# Altium integrated library Transistor.IntLib: 3457 symbols (part 30 of 78)
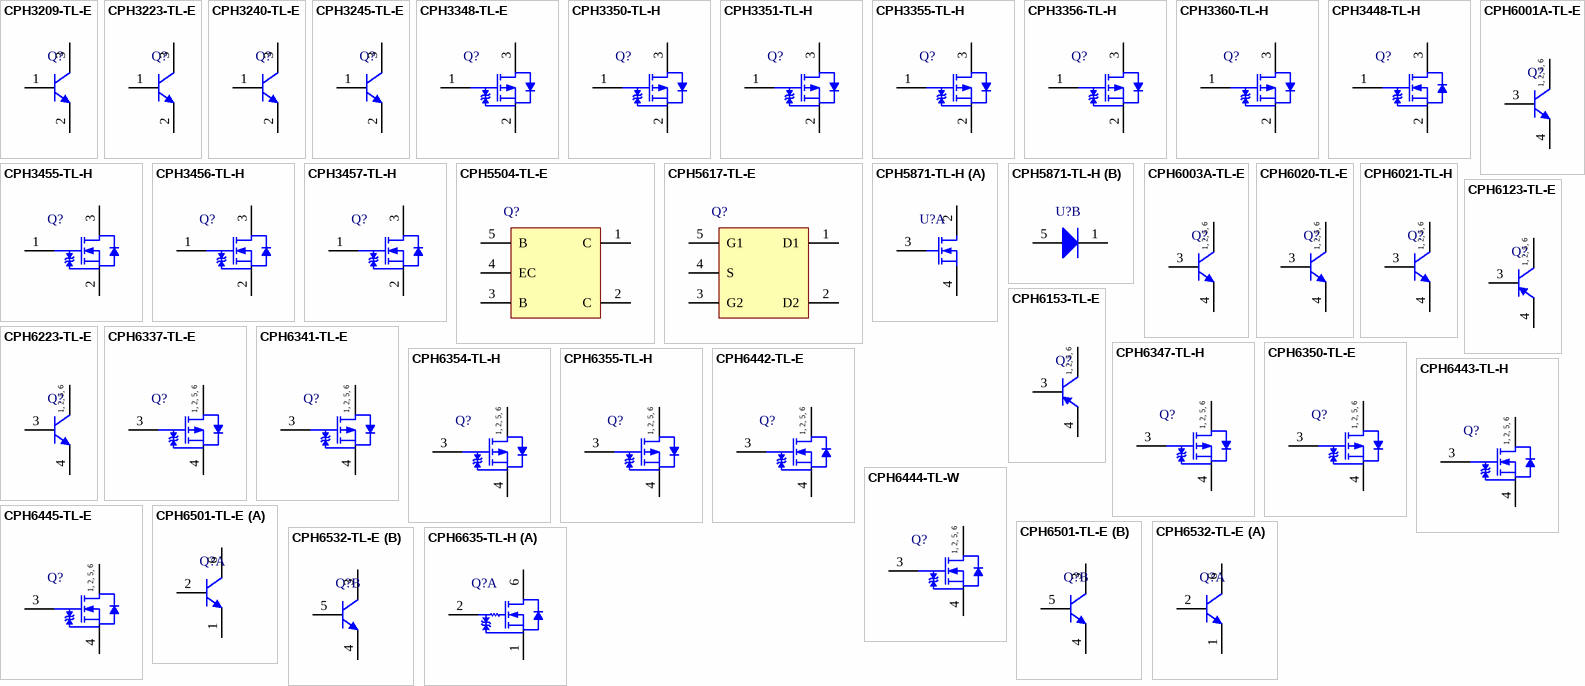
[diagram p123: symbols CPH3209-TL-E to CPH6635-TL-H]

## CPH6532-TL-E
designator Q?
Bipolar Transistor, 50 V, 1 A, Low VCE(sat), NPN Dual, 6-Pin CPH, Pb-Free, Tape and Reel; Manufacturer: On Semiconductor; PartNumber: CPH6532-TL-E; IC Continuous (A): 1; Polarity: Dual NPN; PackageReference: CPH-6; PackageDescription: 6-Pin Small Outline Transistor, Body 2.9 x 1.6 mm, Pitch 0.95 mm; Supplier 1: Digi-Key; Supplier Part Number 1: CPH6532-TL-E-ND; Supplier 2: Mouser; Supplier Part Number 2: 863-CPH6532-TL-E; Packing: Tape and Reel; RoHS: TRUE; Mounting Technology: Surface Mount; ComponentLink1Description: Manufacturer URL; ComponentLink1URL: http://www.onsemi.com/; ComponentLink2Description: Datasheet; ComponentLink2URL: http://www.onsemi.com/pub_link/Collateral/CPH6532-D.PDF; ComponentLink3Description: Package Specification; ComponentLink3URL: http://www.onsemi.com/pub_link/Collateral/CPH6001A-D.PDF
footprint ONSC-CPH-6_V (SOT23, 6-Leads, Body 2.9x1.6mm, Pitch 0.95mm)
part A pins: 1 E, 2 B, 6 C
part B pins: 3 C, 4 E, 5 B

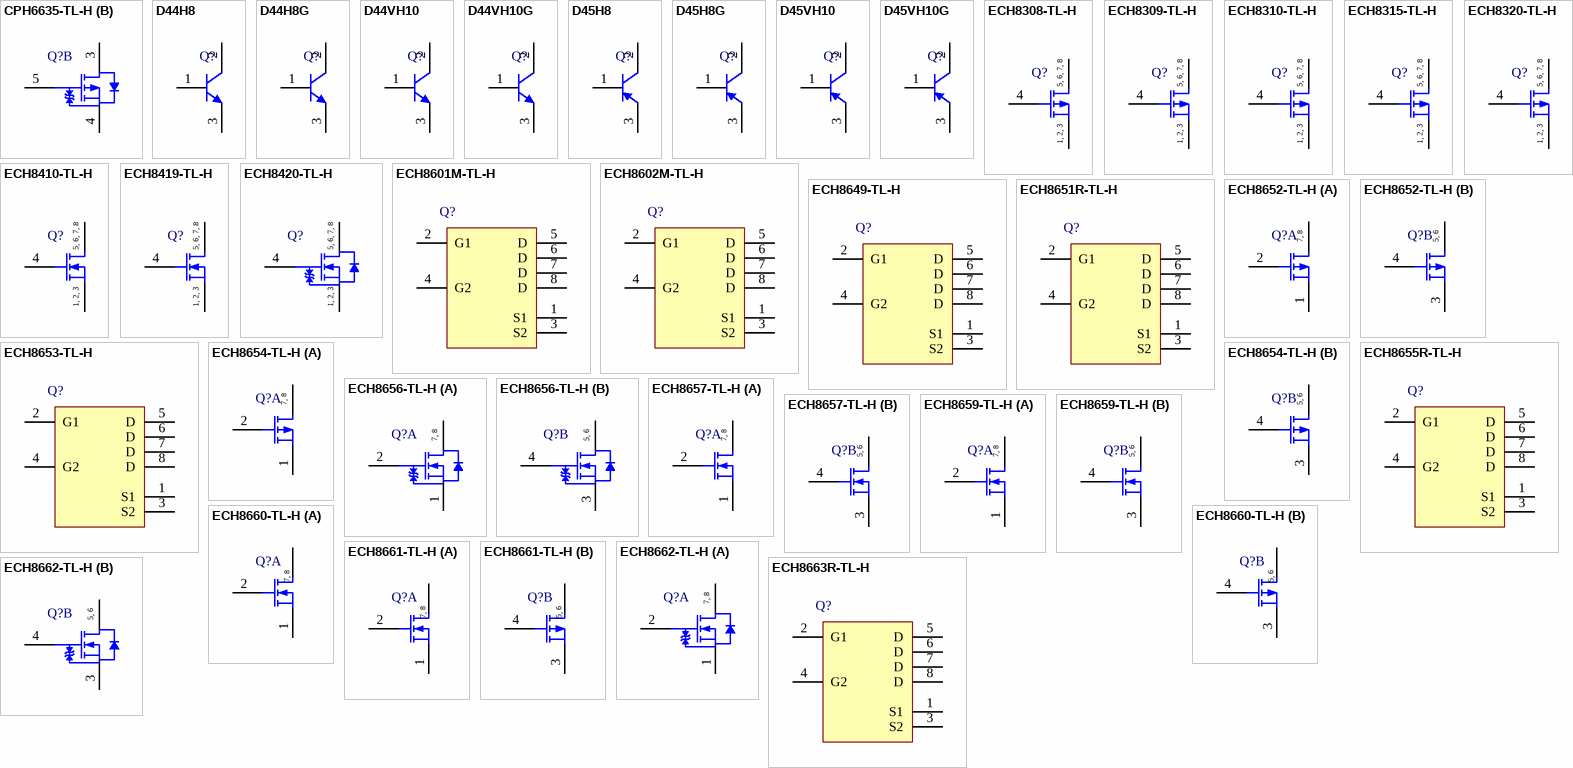
[diagram p34: symbols CPH6635-TL-H to ECH8663R-TL-H]

## CPH6635-TL-H
designator Q?
Power MOSFET, 30 V, 0.4 A, 3.7 Ohm, -20 V, -1.5 A, 280 mOhm, 6-Pin CPH, Pb-Free, Tape and Reel; Manufacturer: On Semiconductor; PartNumber: CPH6635-TL-H; Channel Polarity: Complementary; Configuration: Dual; PD Max (W): 0.8; VGS Max (V): 10; PackageReference: CPH-6; PackageDescription: 6-Pin Small Outline Transistor, Body 2.9 x 1.6 mm, Pitch 0.95 mm; Supplier 1: Newark; Supplier Part Number 1: 97W4972; Supplier 2: Mouser; Supplier Part Number 2: 863-CPH6635-TL-H; Package Type: CPH-6; Packing: Tape and Reel; RoHS: Pb-Free; Mounting Technology: Surface Mount; ComponentLink1Description: Manufacturer URL; ComponentLink1URL: http://www.onsemi.com/; ComponentLink2Description: Datasheet; ComponentLink2URL: http://www.onsemi.com/pub_link/Collateral/ENA2166-D.PDF; ComponentLink3Description: Package Specification; ComponentLink3URL: http://www.onsemi.com/pub_link/Collateral/CPH6001A-D.PDF
footprint ONSC-CPH-6_V (SOT23, 6-Leads, Body 2.9x1.6mm, Pitch 0.95mm)
part A pins: 1 S1, 2 G1, 6 D1
part B pins: 3 D2, 4 S2, 5 G2

## D44H8
designator Q?
Complementary Silicon Power Transistor, 3-Pin TO-220, Tube; Manufacturer: On Semiconductor; PartNumber: D44H8; IC Continuous (A): 10; Polarity: NPN; DatasheetVersion: Rev. 12; PackageVersion: Rev. AG, 09/2011; PackageReference: TO-220-3-221A-09; PackageDescription: 3-Pin Flange Mount, Vertical Straight Lead, Body 9.97 x 4.445 mm, Pitch 2.54 mm; Supplier 1: Digi-Key; Supplier Part Number 1: D44H8OS-ND; Packing: Tube; RoHS: FALSE; Mounting Technology: Through Hole; ComponentLink1Description: Manufacturer URL; ComponentLink1URL: http://www.onsemi.com/; ComponentLink2Description: Datasheet; ComponentLink2URL: http://www.onsemi.com/pub_link/Collateral/D44H-D.PDF; ComponentLink3Description: Package Specification; ComponentLink3URL: http://www.onsemi.com/pub_link/Collateral/221A-09.PDF
footprint ONSC-TO-220-3-221A-09 (FM, 3-Leads, Body 10.3x4.85mm, Pitch 2.54mm)
pins: 1 B, 2 C, 3 E

## D44H8G
designator Q?
Complementary Silicon Power Transistor, 3-Pin TO-220, Pb-Free, Tube; Manufacturer: On Semiconductor; PartNumber: D44H8G; IC Continuous (A): 10; Polarity: NPN; DatasheetVersion: Rev. 12; PackageVersion: Rev. AG, 09/2011; PackageReference: TO-220-3-221A-09; PackageDescription: 3-Pin Flange Mount, Vertical Straight Lead, Body 9.97 x 4.445 mm, Pitch 2.54 mm; Supplier 1: Digi-Key; Supplier Part Number 1: D44H8GOS-ND; Supplier 2: Farnell; Supplier Part Number 2: 9556206; Supplier 3: Newark; Supplier Part Number 3: 38K1067; Supplier 4: Newark; Supplier Part Number 4: 71J3833; Supplier 5: Mouser; Supplier Part Number 5: 863-D44H8G; Packing: Tube; RoHS: TRUE; Mounting Technology: Through Hole; ComponentLink1Description: Manufacturer URL; ComponentLink1URL: http://www.onsemi.com/; ComponentLink2Description: Datasheet; ComponentLink2URL: http://www.onsemi.com/pub_link/Collateral/D44H-D.PDF; ComponentLink3Description: Package Specification; ComponentLink3URL: http://www.onsemi.com/pub_link/Collateral/221A-09.PDF
footprint ONSC-TO-220-3-221A-09 (FM, 3-Leads, Body 10.3x4.85mm, Pitch 2.54mm)
pins: 1 B, 2 C, 3 E

## D44VH10
designator Q?
Complementary Silicon Power Transistor, 3-Pin TO-220, Tube; Manufacturer: On Semiconductor; PartNumber: D44VH10; IC Continuous (A): 15; Polarity: NPN; DatasheetVersion: Rev. 7; PackageVersion: Rev. AG, 09/2011; PackageReference: TO-220-3-221A-09; PackageDescription: 3-Pin Flange Mount, Vertical Straight Lead, Body 9.97 x 4.445 mm, Pitch 2.54 mm; Supplier 1: Digi-Key; Supplier Part Number 1: D44VH10OS-ND; Packing: Tube; RoHS: FALSE; Mounting Technology: Through Hole; ComponentLink1Description: Manufacturer URL; ComponentLink1URL: http://www.onsemi.com/; ComponentLink2Description: Datasheet; ComponentLink2URL: http://www.onsemi.com/pub_link/Collateral/D44VH-D.PDF; ComponentLink3Description: Package Specification; ComponentLink3URL: http://www.onsemi.com/pub_link/Collateral/221A-09.PDF
footprint ONSC-TO-220-3-221A-09 (FM, 3-Leads, Body 10.3x4.85mm, Pitch 2.54mm)
pins: 1 B, 2 C, 3 E

## D44VH10G
designator Q?
Complementary Silicon Power Transistor, 3-Pin TO-220, Pb-Free, Tube; Manufacturer: On Semiconductor; PartNumber: D44VH10G; IC Continuous (A): 15; Polarity: NPN; DatasheetVersion: Rev. 7; PackageVersion: Rev. AG, 09/2011; PackageReference: TO-220-3-221A-09; PackageDescription: 3-Pin Flange Mount, Vertical Straight Lead, Body 9.97 x 4.445 mm, Pitch 2.54 mm; Supplier 1: Digi-Key; Supplier Part Number 1: D44VH10GOS-ND; Supplier 2: Farnell; Supplier Part Number 2: 1459054; Supplier 3: Newark; Supplier Part Number 3: 26K3586; Supplier 4: Mouser; Supplier Part Number 4: 863-D44VH10G; Packing: Tube; RoHS: TRUE; Mounting Technology: Through Hole; ComponentLink1Description: Manufacturer URL; ComponentLink1URL: http://www.onsemi.com/; ComponentLink2Description: Datasheet; ComponentLink2URL: http://www.onsemi.com/pub_link/Collateral/D44VH-D.PDF; ComponentLink3Description: Package Specification; ComponentLink3URL: http://www.onsemi.com/pub_link/Collateral/221A-09.PDF
footprint ONSC-TO-220-3-221A-09 (FM, 3-Leads, Body 10.3x4.85mm, Pitch 2.54mm)
pins: 1 B, 2 C, 3 E

## D45H8
designator Q?
Complementary Silicon Power Transistor, 3-Pin TO-220, Tube; Manufacturer: On Semiconductor; PartNumber: D45H8; IC Continuous (A): 10; Polarity: PNP; DatasheetVersion: Rev. 12; PackageVersion: Rev. AG, 09/2011; PackageReference: TO-220-3-221A-09; PackageDescription: 3-Pin Flange Mount, Vertical Straight Lead, Body 9.97 x 4.445 mm, Pitch 2.54 mm; Supplier 1: Digi-Key; Supplier Part Number 1: D45H8OS-ND; Packing: Tube; RoHS: FALSE; Mounting Technology: Through Hole; ComponentLink1Description: Manufacturer URL; ComponentLink1URL: http://www.onsemi.com/; ComponentLink2Description: Datasheet; ComponentLink2URL: http://www.onsemi.com/pub_link/Collateral/D44H-D.PDF; ComponentLink3Description: Package Specification; ComponentLink3URL: http://www.onsemi.com/pub_link/Collateral/221A-09.PDF
footprint ONSC-TO-220-3-221A-09 (FM, 3-Leads, Body 10.3x4.85mm, Pitch 2.54mm)
pins: 1 B, 2 C, 3 E

## D45H8G
designator Q?
Complementary Silicon Power Transistor, 3-Pin TO-220, Pb-Free, Tube; Manufacturer: On Semiconductor; PartNumber: D45H8G; IC Continuous (A): 10; Polarity: PNP; DatasheetVersion: Rev. 12; PackageVersion: Rev. AG, 09/2011; PackageReference: TO-220-3-221A-09; PackageDescription: 3-Pin Flange Mount, Vertical Straight Lead, Body 9.97 x 4.445 mm, Pitch 2.54 mm; Supplier 1: Digi-Key; Supplier Part Number 1: D45H8GOS-ND; Supplier 2: Farnell; Supplier Part Number 2: 9556214; Supplier 3: Newark; Supplier Part Number 3: 45J0695; Supplier 4: Mouser; Supplier Part Number 4: 863-D45H8G; Packing: Tube; RoHS: TRUE; Mounting Technology: Through Hole; ComponentLink1Description: Manufacturer URL; ComponentLink1URL: http://www.onsemi.com/; ComponentLink2Description: Datasheet; ComponentLink2URL: http://www.onsemi.com/pub_link/Collateral/D44H-D.PDF; ComponentLink3Description: Package Specification; ComponentLink3URL: http://www.onsemi.com/pub_link/Collateral/221A-09.PDF
footprint ONSC-TO-220-3-221A-09 (FM, 3-Leads, Body 10.3x4.85mm, Pitch 2.54mm)
pins: 1 B, 2 C, 3 E

## D45VH10
designator Q?
Complementary Silicon Power Transistor, 3-Pin TO-220, Tube; Manufacturer: On Semiconductor; PartNumber: D45VH10; IC Continuous (A): 15; Polarity: PNP; DatasheetVersion: Rev. 7; PackageVersion: Rev. AG, 09/2011; PackageReference: TO-220-3-221A-09; PackageDescription: 3-Pin Flange Mount, Vertical Straight Lead, Body 9.97 x 4.445 mm, Pitch 2.54 mm; Supplier 1: Digi-Key; Supplier Part Number 1: D45VH10OS-ND; Packing: Tube; RoHS: FALSE; Mounting Technology: Through Hole; ComponentLink1Description: Manufacturer URL; ComponentLink1URL: http://www.onsemi.com/; ComponentLink2Description: Datasheet; ComponentLink2URL: http://www.onsemi.com/pub_link/Collateral/D44VH-D.PDF; ComponentLink3Description: Package Specification; ComponentLink3URL: http://www.onsemi.com/pub_link/Collateral/221A-09.PDF
footprint ONSC-TO-220-3-221A-09 (FM, 3-Leads, Body 10.3x4.85mm, Pitch 2.54mm)
pins: 1 B, 2 C, 3 E

## D45VH10G
designator Q?
Complementary Silicon Power Transistor, 3-Pin TO-220, Pb-Free, Tube; Manufacturer: On Semiconductor; PartNumber: D45VH10G; IC Continuous (A): 15; Polarity: PNP; DatasheetVersion: Rev. 7; PackageVersion: Rev. AG, 09/2011; PackageReference: TO-220-3-221A-09; PackageDescription: 3-Pin Flange Mount, Vertical Straight Lead, Body 9.97 x 4.445 mm, Pitch 2.54 mm; Supplier 1: Digi-Key; Supplier Part Number 1: D45VH10GOS-ND; Supplier 2: Farnell; Supplier Part Number 2: 1459055; Supplier 3: Newark; Supplier Part Number 3: 26K3588; Supplier 4: Mouser; Supplier Part Number 4: 863-D45VH10G; Packing: Tube; RoHS: TRUE; Mounting Technology: Through Hole; ComponentLink1Description: Manufacturer URL; ComponentLink1URL: http://www.onsemi.com/; ComponentLink2Description: Datasheet; ComponentLink2URL: http://www.onsemi.com/pub_link/Collateral/D44VH-D.PDF; ComponentLink3Description: Package Specification; ComponentLink3URL: http://www.onsemi.com/pub_link/Collateral/221A-09.PDF
footprint ONSC-TO-220-3-221A-09 (FM, 3-Leads, Body 10.3x4.85mm, Pitch 2.54mm)
pins: 1 B, 2 C, 3 E

## ECH8308-TL-H
designator Q?
P-Channel Power MOSFET, -12 V, -10 A, 12.5 mOhm, Single, 8-Pin ECH, Pb-Free, Tape and Reel; Manufacturer: On Semiconductor; PartNumber: ECH8308-TL-H; Channel Polarity: P Channel; Ciss Typ (pF): 2300; Coss Typ (pF): 720; Crss Typ (pF): 550; ID Max (A): 10; PD Max (W): 1.6; V(BR)DSS Min (V): 12; VGS(th) Max (V): 1.3; PackageReference: ECH-8; PackageDescription: 8-Pin SOT23, Body 2.9 x 2.3 mm, Pitch 0.65 mm; Supplier 1: Digi-Key; Supplier Part Number 1: ECH8308-TL-H-ND; Supplier 2: Newark; Supplier Part Number 2: 52T7754; Supplier 3: Mouser; Supplier Part Number 3: 863-ECH8308-TL-H; Configuration: Single; Package Type: SOT-28 FL / ECH-8; Packing: Tape and Reel; RoHS: Pb-Free; VGS Max (V): 10; Mounting Technology: Surface Mount; ComponentLink1Description: Manufacturer URL; ComponentLink1URL: http://www.onsemi.com/; ComponentLink2Description: Datasheet; ComponentLink2URL: http://www.onsemi.com/pub_link/Collateral/ECH8308-D.PDF; ComponentLink3Description: Package Specification; ComponentLink3URL: http://www.onsemi.com/pub_link/Collateral/ECH8308-D.PDF
footprint ONSC-ECH-8_V (SOT23, 8-Leads, Body 2.9x2.3mm, Pitch 0.65mm)
pins: 1 S, 2 S, 3 S, 4 G, 5 D, 6 D, 7 D, 8 D
text: 5, 6, 7, 8; 1, 2, 3

## ECH8309-TL-H
designator Q?
P-Channel Power MOSFET, -12 V, -9.5 A, 16 mOhm, Single, 8-Pin ECH, Pb-Free, Tape and Reel; Manufacturer: On Semiconductor; PartNumber: ECH8309-TL-H; Channel Polarity: P Channel; Ciss Typ (pF): 1780; Coss Typ (pF): 540; Crss Typ (pF): 390; ID Max (A): 9.5; PD Max (W): 1.5; V(BR)DSS Min (V): 12; VGS Max (V): 10; VGS(th) Max (V): 1.3; PackageReference: ECH-8; PackageDescription: 8-Pin SOT23, Body 2.9 x 2.3 mm, Pitch 0.65 mm; Supplier 1: Digi-Key; Supplier Part Number 1: ECH8309-TL-H-ND; Supplier 2: Mouser; Supplier Part Number 2: 863-ECH8309-TL-H; Configuration: Single; Package Type: SOT-28 FL / ECH-8; Packing: Tape and Reel; RoHS: Pb-Free; Mounting Technology: Surface Mount; ComponentLink1Description: Manufacturer URL; ComponentLink1URL: http://www.onsemi.com/; ComponentLink2Description: Datasheet; ComponentLink2URL: http://www.onsemi.com/pub_link/Collateral/ECH8309-D.PDF; ComponentLink3Description: Package Specification; ComponentLink3URL: http://www.onsemi.com/pub_link/Collateral/ECH8308-D.PDF
footprint ONSC-ECH-8_V (SOT23, 8-Leads, Body 2.9x2.3mm, Pitch 0.65mm)
pins: 1 S, 2 S, 3 S, 4 G, 5 D, 6 D, 7 D, 8 D
text: 5, 6, 7, 8; 1, 2, 3

## ECH8310-TL-H
designator Q?
P-Channel Power MOSFET, -30 V, -9 A, 17 mOhm, Single, 8-Pin ECH, Pb-Free, Tape and Reel; Manufacturer: On Semiconductor; PartNumber: ECH8310-TL-H; Channel Polarity: P Channel; Ciss Typ (pF): 1400; Coss Typ (pF): 350; Crss Typ (pF): 250; ID Max (A): 9; PD Max (W): 1.5; V(BR)DSS Min (V): 30; VGS Max (V): 20; VGS(th) Max (V): 2.6; PackageReference: ECH-8; PackageDescription: 8-Pin SOT23, Body 2.9 x 2.3 mm, Pitch 0.65 mm; Supplier 1: Digi-Key; Supplier Part Number 1: ECH8310-TL-H-ND; Supplier 2: Mouser; Supplier Part Number 2: 863-ECH8310-TL-H; Configuration: Single; Package Type: SOT-28 FL / ECH-8; Packing: Tape and Reel; RoHS: Pb-Free; Mounting Technology: Surface Mount; ComponentLink1Description: Manufacturer URL; ComponentLink1URL: http://www.onsemi.com/; ComponentLink2Description: Datasheet; ComponentLink2URL: http://www.onsemi.com/pub_link/Collateral/ECH8310-D.PDF; ComponentLink3Description: Package Specification; ComponentLink3URL: http://www.onsemi.com/pub_link/Collateral/ECH8308-D.PDF
footprint ONSC-ECH-8_V (SOT23, 8-Leads, Body 2.9x2.3mm, Pitch 0.65mm)
pins: 1 S, 2 S, 3 S, 4 G, 5 D, 6 D, 7 D, 8 D
text: 5, 6, 7, 8; 1, 2, 3

## ECH8315-TL-H
designator Q?
P-Channel Power MOSFET, -30 V, -7.5 A, 25 mOhm, Single, 8-Pin ECH, Pb-Free, Tape and Reel; Manufacturer: On Semiconductor; PartNumber: ECH8315-TL-H; Channel Polarity: P Channel; Ciss Typ (pF): 875; Coss Typ (pF): 200; Crss Typ (pF): 150; ID Max (A): 7.5; PD Max (W): 1.5; V(BR)DSS Min (V): 30; VGS Max (V): 20; VGS(th) Max (V): 2.6; PackageReference: ECH-8; PackageDescription: 8-Pin SOT23, Body 2.9 x 2.3 mm, Pitch 0.65 mm; Supplier 1: Digi-Key; Supplier Part Number 1: ECH8315-TL-H-ND; Supplier 2: Mouser; Supplier Part Number 2: 863-ECH8315-TL-H; Configuration: Single; Package Type: SOT-28 FL / ECH-8; Packing: Tape and Reel; RoHS: Pb-Free; Mounting Technology: Surface Mount; ComponentLink1Description: Manufacturer URL; ComponentLink1URL: http://www.onsemi.com/; ComponentLink2Description: Datasheet; ComponentLink2URL: http://www.onsemi.com/pub_link/Collateral/ENA1387-D.PDF; ComponentLink3Description: Package Specification; ComponentLink3URL: http://www.onsemi.com/pub_link/Collateral/ECH8308-D.PDF
footprint ONSC-ECH-8_V (SOT23, 8-Leads, Body 2.9x2.3mm, Pitch 0.65mm)
pins: 1 S, 2 S, 3 S, 4 G, 5 D, 6 D, 7 D, 8 D
text: 5, 6, 7, 8; 1, 2, 3

## ECH8320-TL-H
designator Q?
P-Channel Power MOSFET, -20 V, -9.5 A, 14.5 mOhm, Single, 8-Pin ECH, Pb-Free, Tape and Reel; Manufacturer: On Semiconductor; PartNumber: ECH8320-TL-H; Channel Polarity: P Channel; Ciss Typ (pF): 2300; Coss Typ (pF): 440; Crss Typ (pF): 340; ID Max (A): 9.5; PD Max (W): 1.6; V(BR)DSS Min (V): 20; VGS Max (V): 10; VGS(th) Max (V): 1.3; PackageReference: ECH-8; PackageDescription: 8-Pin SOT23, Body 2.9 x 2.3 mm, Pitch 0.65 mm; Supplier 1: Digi-Key; Supplier Part Number 1: ECH8320-TL-H-ND; Supplier 2: Mouser; Supplier Part Number 2: 863-ECH8320-TL-H; Configuration: Single; Package Type: SOT-28 FL / ECH-8; Packing: Tape and Reel; RoHS: Pb-Free; Mounting Technology: Surface Mount; ComponentLink1Description: Manufacturer URL; ComponentLink1URL: http://www.onsemi.com/; ComponentLink2Description: Datasheet; ComponentLink2URL: http://www.onsemi.com/pub_link/Collateral/ECH8320-D.PDF; ComponentLink3Description: Package Specification; ComponentLink3URL: http://www.onsemi.com/pub_link/Collateral/ECH8308-D.PDF
footprint ONSC-ECH-8_V (SOT23, 8-Leads, Body 2.9x2.3mm, Pitch 0.65mm)
pins: 1 S, 2 S, 3 S, 4 G, 5 D, 6 D, 7 D, 8 D
text: 5, 6, 7, 8; 1, 2, 3

## ECH8410-TL-H
designator Q?
N-Channel Power MOSFET, 30 V, 12 A, 10 mOhm, Single, 8-Pin ECH, Pb-Free, Tape and Reel; Manufacturer: On Semiconductor; PartNumber: ECH8410-TL-H; Channel Polarity: N Channel; Ciss Typ (pF): 1700; Coss Typ (pF): 300; Crss Typ (pF): 200; ID Max (A): 12; PD Max (W): 1.6; V(BR)DSS Min (V): 30; VGS Max (V): 20; VGS(th) Max (V): 2.6; PackageReference: ECH-8; PackageDescription: 8-Pin SOT23, Body 2.9 x 2.3 mm, Pitch 0.65 mm; Supplier 1: Digi-Key; Supplier Part Number 1: ECH8410-TL-H-ND; Supplier 2: Mouser; Supplier Part Number 2: 863-ECH8410-TL-H; Configuration: Single; Package Type: SOT-28 FL / ECH-8; Packing: Tape and Reel; RoHS: Pb-Free; Mounting Technology: Surface Mount; ComponentLink1Description: Manufacturer URL; ComponentLink1URL: http://www.onsemi.com/; ComponentLink2Description: Datasheet; ComponentLink2URL: http://www.onsemi.com/pub_link/Collateral/ECH8410-D.PDF; ComponentLink3Description: Package Specification; ComponentLink3URL: http://www.onsemi.com/pub_link/Collateral/ECH8308-D.PDF
footprint ONSC-ECH-8_V (SOT23, 8-Leads, Body 2.9x2.3mm, Pitch 0.65mm)
pins: 1 S, 2 S, 3 S, 4 G, 5 D, 6 D, 7 D, 8 D
text: 5, 6, 7, 8; 1, 2, 3

## ECH8419-TL-H
designator Q?
N-Channel Power MOSFET, 35 V, 9 A, 17 mOhm, Single, 8-Pin ECH, Pb-Free, Tape and Reel; Manufacturer: On Semiconductor; PartNumber: ECH8419-TL-H; Channel Polarity: N Channel; Ciss Typ (pF): 960; Coss Typ (pF): 130; Crss Typ (pF): 80; ID Max (A): 9; PD Max (W): 1.5; V(BR)DSS Min (V): 35; VGS Max (V): 20; VGS(th) Max (V): 2.6; PackageReference: ECH-8; PackageDescription: 8-Pin SOT23, Body 2.9 x 2.3 mm, Pitch 0.65 mm; Supplier 1: Digi-Key; Supplier Part Number 1: ECH8419-TL-H-ND; Supplier 2: Newark; Supplier Part Number 2: 65T1217; Supplier 3: Mouser; Supplier Part Number 3: 863-ECH8419-TL-H; Configuration: Single; Package Type: SOT-28 FL / ECH-8; Packing: Tape and Reel; RoHS: Pb-Free; Mounting Technology: Surface Mount; ComponentLink1Description: Manufacturer URL; ComponentLink1URL: http://www.onsemi.com/; ComponentLink2Description: Datasheet; ComponentLink2URL: http://www.onsemi.com/pub_link/Collateral/ENA1886-D.PDF; ComponentLink3Description: Package Specification; ComponentLink3URL: http://www.onsemi.com/pub_link/Collateral/ECH8308-D.PDF
footprint ONSC-ECH-8_V (SOT23, 8-Leads, Body 2.9x2.3mm, Pitch 0.65mm)
pins: 1 S, 2 S, 3 S, 4 G, 5 D, 6 D, 7 D, 8 D
text: 5, 6, 7, 8; 1, 2, 3

## ECH8420-TL-H
designator Q?
N-Channel Power MOSFET, 20 V, 14 A, 6.8 mOhm, Single, 8-Pin ECH, Pb-Free, Tape and Reel; Manufacturer: On Semiconductor; PartNumber: ECH8420-TL-H; Channel Polarity: N Channel; Ciss Typ (pF): 2430; Coss Typ (pF): 410; Crss Typ (pF): 330; ID Max (A): 14; PD Max (W): 1.6; V(BR)DSS Min (V): 20; VGS Max (V): 12; VGS(th) Max (V): 1.3; PackageReference: ECH-8; PackageDescription: 8-Pin SOT23, Body 2.9 x 2.3 mm, Pitch 0.65 mm; Supplier 1: Digi-Key; Supplier Part Number 1: ECH8420-TL-H-ND; Supplier 2: Newark; Supplier Part Number 2: 07W6844; Supplier 3: Mouser; Supplier Part Number 3: 863-ECH8420-TL-H; Configuration: Single; Package Type: SOT-28 FL / ECH-8; Packing: Tape and Reel; RoHS: Pb-Free; Mounting Technology: Surface Mount; ComponentLink1Description: Manufacturer URL; ComponentLink1URL: http://www.onsemi.com/; ComponentLink2Description: Datasheet; ComponentLink2URL: http://www.onsemi.com/pub_link/Collateral/ECH8420.PDF; ComponentLink3Description: Package Specification; ComponentLink3URL: http://www.onsemi.com/pub_link/Collateral/ECH8308-D.PDF
footprint ONSC-ECH-8_V (SOT23, 8-Leads, Body 2.9x2.3mm, Pitch 0.65mm)
pins: 1 S, 2 S, 3 S, 4 G, 5 D, 6 D, 7 D, 8 D
text: 5, 6, 7, 8; 1, 2, 3

## ECH8601M-TL-H
designator Q?
N-Channel Power MOSFET, 24 V, 8 A, 23 mOhm, Dual, 8-Pin ECH, Pb-Free, Tape and Reel; Manufacturer: On Semiconductor; PartNumber: ECH8601M-TL-H; Channel Polarity: N Channel; ID Max (A): 8; PD Max (W): 1.5; V(BR)DSS Min (V): 24; VGS Max (V): 12; VGS(th) Max (V): 1.3; PackageReference: ECH-8; PackageDescription: 8-Pin SOT23, Body 2.9 x 2.3 mm, Pitch 0.65 mm; Supplier 1: Digi-Key; Supplier Part Number 1: ECH8601M-TL-H-ND; Supplier 2: Mouser; Supplier Part Number 2: 863-ECH8601M-TL-H; Configuration: Dual; Package Type: SOT-28 FL / ECH-8; Packing: Tape and Reel; RoHS: Pb-Free; Mounting Technology: Surface Mount; ComponentLink1Description: Manufacturer URL; ComponentLink1URL: http://www.onsemi.com/; ComponentLink2Description: Datasheet; ComponentLink2URL: http://www.onsemi.com/pub_link/Collateral/ECH8601M-D.PDF; ComponentLink3Description: Package Specification; ComponentLink3URL: http://www.onsemi.com/pub_link/Collateral/ECH8308-D.PDF
footprint ONSC-ECH-8_V (SOT23, 8-Leads, Body 2.9x2.3mm, Pitch 0.65mm)
pins: 1 S1, 2 G1, 3 S2, 4 G2, 5 D, 6 D, 7 D, 8 D

## ECH8602M-TL-H
designator Q?
N-Channel Power MOSFET, 30 V, 6 A, 30 mOhm, Dual, 8-Pin ECH, Pb-Free, Tape and Reel; Manufacturer: On Semiconductor; PartNumber: ECH8602M-TL-H; Channel Polarity: N Channel; ID Max (A): 6; PD Max (W): 1.4; V(BR)DSS Min (V): 30; VGS Max (V): 12; VGS(th) Max (V): 1.3; PackageReference: ECH-8; PackageDescription: 8-Pin SOT23, Body 2.9 x 2.3 mm, Pitch 0.65 mm; Supplier 1: Digi-Key; Supplier Part Number 1: ECH8602M-TL-H-ND; Supplier 2: Mouser; Supplier Part Number 2: 863-ECH8602M-TL-H; Configuration: Dual; Package Type: SOT-28 FL / ECH-8; Packing: Tape and Reel; RoHS: Pb-Free; Mounting Technology: Surface Mount; ComponentLink1Description: Manufacturer URL; ComponentLink1URL: http://www.onsemi.com/; ComponentLink2Description: Datasheet; ComponentLink2URL: http://www.onsemi.com/pub_link/Collateral/ECH8602M-D.PDF; ComponentLink3Description: Package Specification; ComponentLink3URL: http://www.onsemi.com/pub_link/Collateral/ECH8308-D.PDF
footprint ONSC-ECH-8_V (SOT23, 8-Leads, Body 2.9x2.3mm, Pitch 0.65mm)
pins: 1 S1, 2 G1, 3 S2, 4 G2, 5 D, 6 D, 7 D, 8 D

## ECH8649-TL-H
designator Q?
N-Channel Power MOSFET, 20 V, 7.5 A, 17 mOhm, Dual, 8-Pin ECH, Pb-Free, Tape and Reel; Manufacturer: On Semiconductor; PartNumber: ECH8649-TL-H; Channel Polarity: N Channel; Ciss Typ (pF): 1060; Coss Typ (pF): 180; Crss Typ (pF): 135; ID Max (A): 7.5; PD Max (W): 1.4; V(BR)DSS Min (V): 20; VGS Max (V): 10; VGS(th) Max (V): 1.3; PackageReference: ECH-8; PackageDescription: 8-Pin SOT23, Body 2.9 x 2.3 mm, Pitch 0.65 mm; Supplier 1: Digi-Key; Supplier Part Number 1: ECH8649-TL-H-ND; Supplier 2: Mouser; Supplier Part Number 2: 863-ECH8649-TL-H; Configuration: Dual; Package Type: SOT-28 FL / ECH-8; Packing: Tape and Reel; RoHS: Pb-Free; Mounting Technology: Surface Mount; ComponentLink1Description: Manufacturer URL; ComponentLink1URL: http://www.onsemi.com/; ComponentLink2Description: Datasheet; ComponentLink2URL: http://www.onsemi.com/pub_link/Collateral/ECH8649-D.PDF; ComponentLink3Description: Package Specification; ComponentLink3URL: http://www.onsemi.com/pub_link/Collateral/ECH8308-D.PDF
footprint ONSC-ECH-8_V (SOT23, 8-Leads, Body 2.9x2.3mm, Pitch 0.65mm)
pins: 1 S1, 2 G1, 3 S2, 4 G2, 5 D, 6 D, 7 D, 8 D

## ECH8651R-TL-H
designator Q?
N-Channel Power MOSFET, 24 V, 10 A, 14 mOhm, Dual, 8-Pin ECH, Pb-Free, Tape and Reel; Manufacturer: On Semiconductor; PartNumber: ECH8651R-TL-H; Channel Polarity: N Channel; ID Max (A): 10; PD Max (W): 1.4; V(BR)DSS Min (V): 24; VGS Max (V): 12; VGS(th) Max (V): 1.3; PackageReference: ECH-8; PackageDescription: 8-Pin SOT23, Body 2.9 x 2.3 mm, Pitch 0.65 mm; Supplier 1: Digi-Key; Supplier Part Number 1: 869-1158-2-ND; Supplier 2: Digi-Key; Supplier Part Number 2: 869-1158-1-ND; Supplier 3: Digi-Key; Supplier Part Number 3: 869-1158-6-ND; Supplier 4: Mouser; Supplier Part Number 4: 863-ECH8651R-TL-H; Configuration: Dual; Package Type: SOT-28 FL / ECH-8; Packing: Tape and Reel; RoHS: Pb-Free; Mounting Technology: Surface Mount; ComponentLink1Description: Manufacturer URL; ComponentLink1URL: http://www.onsemi.com/; ComponentLink2Description: Datasheet; ComponentLink2URL: http://www.onsemi.com/pub_link/Collateral/ECH8651R-D.PDF; ComponentLink3Description: Package Specification; ComponentLink3URL: http://www.onsemi.com/pub_link/Collateral/ECH8308-D.PDF
footprint ONSC-ECH-8_V (SOT23, 8-Leads, Body 2.9x2.3mm, Pitch 0.65mm)
pins: 1 S1, 2 G1, 3 S2, 4 G2, 5 D, 6 D, 7 D, 8 D

## ECH8652-TL-H
designator Q?
P-Channel Power MOSFET, -12 V, -6 A, 28 mOhm, Dual, 8-Pin ECH, Pb-Free, Tape and Reel; Manufacturer: On Semiconductor; PartNumber: ECH8652-TL-H; Channel Polarity: P Channel; Ciss Typ (pF): 1000; Coss Typ (pF): 320; Crss Typ (pF): 250; ID Max (A): 6; PD Max (W): 1.3; V(BR)DSS Min (V): 12; VGS Max (V): 10; VGS(th) Max (V): 1.4; PackageReference: ECH-8; PackageDescription: 8-Pin SOT23, Body 2.9 x 2.3 mm, Pitch 0.65 mm; Supplier 1: Digi-Key; Supplier Part Number 1: ECH8652-TL-H-ND; Supplier 2: Mouser; Supplier Part Number 2: 863-ECH8652-TL-H; Configuration: Dual; Package Type: SOT-28 FL / ECH-8; Packing: Tape and Reel; RoHS: Pb-Free; Mounting Technology: Surface Mount; ComponentLink1Description: Manufacturer URL; ComponentLink1URL: http://www.onsemi.com/; ComponentLink2Description: Datasheet; ComponentLink2URL: http://www.onsemi.com/pub_link/Collateral/ECH8652-D.PDF; ComponentLink3Description: Package Specification; ComponentLink3URL: http://www.onsemi.com/pub_link/Collateral/ECH8308-D.PDF
footprint ONSC-ECH-8_V (SOT23, 8-Leads, Body 2.9x2.3mm, Pitch 0.65mm)
part A pins: 1 S1, 2 G1, 7 D1, 8 D1
part B pins: 3 S2, 4 G2, 5 D2, 6 D2
part A text: 7, 8
part B text: 5, 6

## ECH8653-TL-H
designator Q?
N-Channel Power MOSFET, 20 V, 7.5 A, 20 mOhm, Dual, 8-Pin ECH, Pb-Free, Tape and Reel; Manufacturer: On Semiconductor; PartNumber: ECH8653-TL-H; Channel Polarity: N Channel; Ciss Typ (pF): 1280; Coss Typ (pF): 170; Crss Typ (pF): 105; ID Max (A): 7.5; PD Max (W): 1.4; V(BR)DSS Min (V): 20; VGS Max (V): 10; VGS(th) Max (V): 2.4; PackageReference: ECH-8; PackageDescription: 8-Pin SOT23, Body 2.9 x 2.3 mm, Pitch 0.65 mm; Supplier 1: Digi-Key; Supplier Part Number 1: ECH8653-TL-H-ND; Supplier 2: Mouser; Supplier Part Number 2: 863-ECH8653-TL-H; Configuration: Dual; Package Type: SOT-28 FL / ECH-8; Packing: Tape and Reel; RoHS: Pb-Free; Mounting Technology: Surface Mount; ComponentLink1Description: Manufacturer URL; ComponentLink1URL: http://www.onsemi.com/; ComponentLink2Description: Datasheet; ComponentLink2URL: http://www.onsemi.com/pub_link/Collateral/ECH8653-D.PDF; ComponentLink3Description: Package Specification; ComponentLink3URL: http://www.onsemi.com/pub_link/Collateral/ECH8308-D.PDF
footprint ONSC-ECH-8_V (SOT23, 8-Leads, Body 2.9x2.3mm, Pitch 0.65mm)
pins: 1 S1, 2 G1, 3 S2, 4 G2, 5 D, 6 D, 7 D, 8 D

## ECH8654-TL-H
designator Q?
P-Channel Power MOSFET, -20 V, -5 A, 38 mOhm, Dual, 8-Pin ECH, Pb-Free, Tape and Reel; Manufacturer: On Semiconductor; PartNumber: ECH8654-TL-H; Channel Polarity: P Channel; Ciss Typ (pF): 960; Coss Typ (pF): 180; Crss Typ (pF): 140; ID Max (A): 5; PD Max (W): 1.3; V(BR)DSS Min (V): 20; VGS Max (V): 10; PackageReference: ECH-8; PackageDescription: 8-Pin SOT23, Body 2.9 x 2.3 mm, Pitch 0.65 mm; Supplier 1: Digi-Key; Supplier Part Number 1: 869-1159-2-ND; Supplier 2: Digi-Key; Supplier Part Number 2: 869-1159-1-ND; Supplier 3: Digi-Key; Supplier Part Number 3: 869-1159-6-ND; Supplier 4: Mouser; Supplier Part Number 4: 863-ECH8654-TL-H; Configuration: Dual; Package Type: SOT-28 FL / ECH-8; Packing: Tape and Reel; RoHS: Pb-Free; VGS(th) Max (V): 1.3; Mounting Technology: Surface Mount; ComponentLink1Description: Manufacturer URL; ComponentLink1URL: http://www.onsemi.com/; ComponentLink2Description: Datasheet; ComponentLink2URL: http://www.onsemi.com/pub_link/Collateral/ENA0981-D.PDF; ComponentLink3Description: Package Specification; ComponentLink3URL: http://www.onsemi.com/pub_link/Collateral/ECH8308-D.PDF
footprint ONSC-ECH-8_V (SOT23, 8-Leads, Body 2.9x2.3mm, Pitch 0.65mm)
part A pins: 1 S1, 2 G1, 7 D1, 8 D1
part B pins: 3 S2, 4 G2, 5 D2, 6 D2
part A text: 7, 8
part B text: 5, 6

## ECH8655R-TL-H
designator Q?
N-Channel Power MOSFET, 24 V, 9 A, 17 mOhm, Dual, 8-Pin ECH, Pb-Free, Tape and Reel; Manufacturer: On Semiconductor; PartNumber: ECH8655R-TL-H; Channel Polarity: N Channel; ID Max (A): 9; PD Max (W): 1.4; V(BR)DSS Min (V): 24; VGS Max (V): 12; VGS(th) Max (V): 1.3; PackageReference: ECH-8; PackageDescription: 8-Pin SOT23, Body 2.9 x 2.3 mm, Pitch 0.65 mm; Supplier 1: Digi-Key; Supplier Part Number 1: 869-1160-2-ND; Supplier 2: Digi-Key; Supplier Part Number 2: 869-1160-1-ND; Supplier 3: Digi-Key; Supplier Part Number 3: 869-1160-6-ND; Supplier 4: Mouser; Supplier Part Number 4: 863-ECH8655R-TL-H; Configuration: Dual; Package Type: SOT-28 FL / ECH-8; Packing: Tape and Reel; RoHS: Pb-Free; Mounting Technology: Surface Mount; ComponentLink1Description: Manufacturer URL; ComponentLink1URL: http://www.onsemi.com/; ComponentLink2Description: Datasheet; ComponentLink2URL: http://www.onsemi.com/pub_link/Collateral/ECH8655R-D.PDF; ComponentLink3Description: Package Specification; ComponentLink3URL: http://www.onsemi.com/pub_link/Collateral/ECH8308-D.PDF
footprint ONSC-ECH-8_V (SOT23, 8-Leads, Body 2.9x2.3mm, Pitch 0.65mm)
pins: 1 S1, 2 G1, 3 S2, 4 G2, 5 D, 6 D, 7 D, 8 D

## ECH8656-TL-H
designator Q?
N-Channel Power MOSFET, 20 V, 7.5 A, 17 mOhm, Dual, 8-Pin ECH, Pb-Free, Tape and Reel; Manufacturer: On Semiconductor; PartNumber: ECH8656-TL-H; Channel Polarity: N Channel; Ciss Typ (pF): 1060; Coss Typ (pF): 180; Crss Typ (pF): 135; ID Max (A): 7.5; PD Max (W): 1.3; V(BR)DSS Min (V): 20; VGS Max (V): 10; PackageReference: ECH-8; PackageDescription: 8-Pin SOT23, Body 2.9 x 2.3 mm, Pitch 0.65 mm; Supplier 1: Digi-Key; Supplier Part Number 1: ECH8656-TL-H-ND; Supplier 2: Mouser; Supplier Part Number 2: 863-ECH8656-TL-H; Configuration: Dual; Package Type: SOT-28 FL / ECH-8; Packing: Tape and Reel; RoHS: Pb-Free; VGS(th) Max (V): 1.3; Mounting Technology: Surface Mount; ComponentLink1Description: Manufacturer URL; ComponentLink1URL: http://www.onsemi.com/; ComponentLink2Description: Datasheet; ComponentLink2URL: http://www.onsemi.com/pub_link/Collateral/EN9010.PDF; ComponentLink3Description: Package Specification; ComponentLink3URL: http://www.onsemi.com/pub_link/Collateral/ECH8308-D.PDF
footprint ONSC-ECH-8_V (SOT23, 8-Leads, Body 2.9x2.3mm, Pitch 0.65mm)
part A pins: 1 S1, 2 G1, 7 D1, 8 D1
part B pins: 3 S2, 4 G2, 5 D2, 6 D2
part A text: 7, 8
part B text: 5, 6

## ECH8657-TL-H
designator Q?
N-Channel Power MOSFET, 35 V, 4.5 A, 59 mOhm, Dual, 8-Pin ECH, Pb-Free, Tape and Reel; Manufacturer: On Semiconductor; PartNumber: ECH8657-TL-H; Channel Polarity: N Channel; Ciss Typ (pF): 230; Coss Typ (pF): 37; Crss Typ (pF): 25; ID Max (A): 4.5; PD Max (W): 1.3; V(BR)DSS Min (V): 35; VGS Max (V): 20; VGS(th) Max (V): 2.6; PackageReference: ECH-8; PackageDescription: 8-Pin SOT23, Body 2.9 x 2.3 mm, Pitch 0.65 mm; Supplier 1: Digi-Key; Supplier Part Number 1: ECH8657-TL-H-ND; Supplier 2: Mouser; Supplier Part Number 2: 863-ECH8657-TL-H; Configuration: Dual; Package Type: SOT-28 FL / ECH-8; Packing: Tape and Reel; RoHS: Pb-Free; Mounting Technology: Surface Mount; ComponentLink1Description: Manufacturer URL; ComponentLink1URL: http://www.onsemi.com/; ComponentLink2Description: Datasheet; ComponentLink2URL: http://www.onsemi.com/pub_link/Collateral/ECH8657-D.PDF; ComponentLink3Description: Package Specification; ComponentLink3URL: http://www.onsemi.com/pub_link/Collateral/ECH8308-D.PDF
footprint ONSC-ECH-8_V (SOT23, 8-Leads, Body 2.9x2.3mm, Pitch 0.65mm)
part A pins: 1 S1, 2 G1, 7 D1, 8 D1
part B pins: 3 S2, 4 G2, 5 D2, 6 D2
part A text: 7, 8
part B text: 5, 6

## ECH8659-TL-H
designator Q?
N-Channel Power MOSFET, 30 V, 7 A, 24 mOhm, Dual, 8-Pin ECH, Pb-Free, Tape and Reel; Manufacturer: On Semiconductor; PartNumber: ECH8659-TL-H; Channel Polarity: N Channel; Ciss Typ (pF): 710; Coss Typ (pF): 120; Crss Typ (pF): 72; ID Max (A): 7; PD Max (W): 1.3; V(BR)DSS Min (V): 30; VGS Max (V): 20; VGS(th) Max (V): 2.6; PackageReference: ECH-8; PackageDescription: 8-Pin SOT23, Body 2.9 x 2.3 mm, Pitch 0.65 mm; Supplier 1: Digi-Key; Supplier Part Number 1: ECH8659-TL-H-ND; Supplier 2: Mouser; Supplier Part Number 2: 863-ECH8659-TL-H; Configuration: Dual; Package Type: SOT-28 FL / ECH-8; Packing: Tape and Reel; RoHS: Pb-Free; Mounting Technology: Surface Mount; ComponentLink1Description: Manufacturer URL; ComponentLink1URL: http://www.onsemi.com/; ComponentLink2Description: Datasheet; ComponentLink2URL: http://www.onsemi.com/pub_link/Collateral/ECH8659-D.PDF; ComponentLink3Description: Package Specification; ComponentLink3URL: http://www.onsemi.com/pub_link/Collateral/ECH8308-D.PDF
footprint ONSC-ECH-8_V (SOT23, 8-Leads, Body 2.9x2.3mm, Pitch 0.65mm)
part A pins: 1 S1, 2 G1, 7 D1, 8 D1
part B pins: 3 S2, 4 G2, 5 D2, 6 D2
part A text: 7, 8
part B text: 5, 6

## ECH8660-TL-H
designator Q?
Power MOSFET, 30 V, 4.5 A, 59 mOhm, -30 V, -4.5 A, 59 mOhm, Complementary Dual, 8-Pin ECH, Pb-Free, Tape and Reel; Manufacturer: On Semiconductor; PartNumber: ECH8660-TL-H; ID Max (A): 4.5; PD Max (W): 1.3; V(BR)DSS Min (V): 30; VGS Max (V): 20; PackageReference: ECH-8; PackageDescription: 8-Pin SOT23, Body 2.9 x 2.3 mm, Pitch 0.65 mm; Supplier 1: Digi-Key; Supplier Part Number 1: ECH8660-TL-H-ND; Supplier 2: Newark; Supplier Part Number 2: 52T7770; Supplier 3: Mouser; Supplier Part Number 3: 863-ECH8660-TL-H; Channel Polarity: Complementary; Configuration: Dual; Package Type: SOT-28 FL / ECH-8; Packing: Tape and Reel; RoHS: Pb-Free; Mounting Technology: Surface Mount; ComponentLink1Description: Manufacturer URL; ComponentLink1URL: http://www.onsemi.com/; ComponentLink2Description: Datasheet; ComponentLink2URL: http://www.onsemi.com/pub_link/Collateral/ECH8660-D.PDF; ComponentLink3Description: Package Specification; ComponentLink3URL: http://www.onsemi.com/pub_link/Collateral/ECH8308-D.PDF
footprint ONSC-ECH-8_V (SOT23, 8-Leads, Body 2.9x2.3mm, Pitch 0.65mm)
part A pins: 1 S1, 2 G1, 7 D1, 8 D1
part B pins: 3 S2, 4 G2, 5 D2, 6 D2
part A text: 7, 8
part B text: 5, 6

## ECH8661-TL-H
designator Q?
Power MOSFET, 30 V, 7 A, 24 mOhm, -30 V, -5.5 A, 39 mOhm, Complementary Dual, 8-Pin ECH, Pb-Free, Tape and Reel; Manufacturer: On Semiconductor; PartNumber: ECH8661-TL-H; PD Max (W): 1.3; V(BR)DSS Min (V): 30; VGS Max (V): 20; VGS(th) Max (V): 2.6; PackageReference: ECH-8; PackageDescription: 8-Pin SOT23, Body 2.9 x 2.3 mm, Pitch 0.65 mm; Supplier 1: Digi-Key; Supplier Part Number 1: ECH8661-TL-H-ND; Supplier 2: Mouser; Supplier Part Number 2: 863-ECH8661-TL-H; Channel Polarity: Complementary; Configuration: Dual; Package Type: SOT-28 FL / ECH-8; Packing: Tape and Reel; RoHS: Pb-Free; Mounting Technology: Surface Mount; ComponentLink1Description: Manufacturer URL; ComponentLink1URL: http://www.onsemi.com/; ComponentLink2Description: Datasheet; ComponentLink2URL: http://www.onsemi.com/pub_link/Collateral/ECH8661-D.PDF; ComponentLink3Description: Package Specification; ComponentLink3URL: http://www.onsemi.com/pub_link/Collateral/ECH8308-D.PDF
footprint ONSC-ECH-8_V (SOT23, 8-Leads, Body 2.9x2.3mm, Pitch 0.65mm)
part A pins: 1 S1, 2 G1, 7 D1, 8 D1
part B pins: 3 S2, 4 G2, 5 D2, 6 D2
part A text: 7, 8
part B text: 5, 6

## ECH8662-TL-H
designator Q?
N-Channel Power MOSFET, 40 V, 6.5 A, 30 mOhm, Dual, 8-Pin ECH, Pb-Free, Tape and Reel; Manufacturer: On Semiconductor; PartNumber: ECH8662-TL-H; Channel Polarity: N Channel; Ciss Typ (pF): 1130; Coss Typ (pF): 77; Crss Typ (pF): 60; ID Max (A): 6.5; PD Max (W): 1.3; V(BR)DSS Min (V): 40; VGS Max (V): 10; PackageReference: ECH-8; PackageDescription: 8-Pin SOT23, Body 2.9 x 2.3 mm, Pitch 0.65 mm; Supplier 1: Digi-Key; Supplier Part Number 1: ECH8662-TL-H-ND; Supplier 2: Mouser; Supplier Part Number 2: 863-ECH8662-TL-H; Configuration: Dual; Package Type: SOT-28 FL / ECH-8; Packing: Tape and Reel; RoHS: Pb-Free; VGS(th) Max (V): 1.3; Mounting Technology: Surface Mount; ComponentLink1Description: Manufacturer URL; ComponentLink1URL: http://www.onsemi.com/; ComponentLink2Description: Datasheet; ComponentLink2URL: http://www.onsemi.com/pub_link/Collateral/ECH8662-D.PDF; ComponentLink3Description: Package Specification; ComponentLink3URL: http://www.onsemi.com/pub_link/Collateral/ECH8308-D.PDF
footprint ONSC-ECH-8_V (SOT23, 8-Leads, Body 2.9x2.3mm, Pitch 0.65mm)
part A pins: 1 S1, 2 G1, 7 D1, 8 D1
part B pins: 3 S2, 4 G2, 5 D2, 6 D2
part A text: 7, 8
part B text: 5, 6

## ECH8663R-TL-H
designator Q?
N-Channel Power MOSFET, 30 V, 8 A, 20.5 mOhm, Dual, 8-Pin ECH, Pb-Free, Tape and Reel; Manufacturer: On Semiconductor; PartNumber: ECH8663R-TL-H; Channel Polarity: N Channel; ID Max (A): 8; PD Max (W): 1.4; V(BR)DSS Min (V): 30; VGS Max (V): 12; VGS(th) Max (V): 1.3; PackageReference: ECH-8; PackageDescription: 8-Pin SOT23, Body 2.9 x 2.3 mm, Pitch 0.65 mm; Supplier 1: Digi-Key; Supplier Part Number 1: ECH8663R-TL-H-ND; Supplier 2: Mouser; Supplier Part Number 2: 863-ECH8663R-TL-H; Configuration: Dual; Package Type: SOT-28 FL / ECH-8; Packing: Tape and Reel; RoHS: Pb-Free; Mounting Technology: Surface Mount; ComponentLink1Description: Manufacturer URL; ComponentLink1URL: http://www.onsemi.com/; ComponentLink2Description: Datasheet; ComponentLink2URL: http://www.onsemi.com/pub_link/Collateral/ENA1184-D.PDF; ComponentLink3Description: Package Specification; ComponentLink3URL: http://www.onsemi.com/pub_link/Collateral/ECH8308-D.PDF
footprint ONSC-ECH-8_V (SOT23, 8-Leads, Body 2.9x2.3mm, Pitch 0.65mm)
pins: 1 S1, 2 G1, 3 S2, 4 G2, 5 D, 6 D, 7 D, 8 D

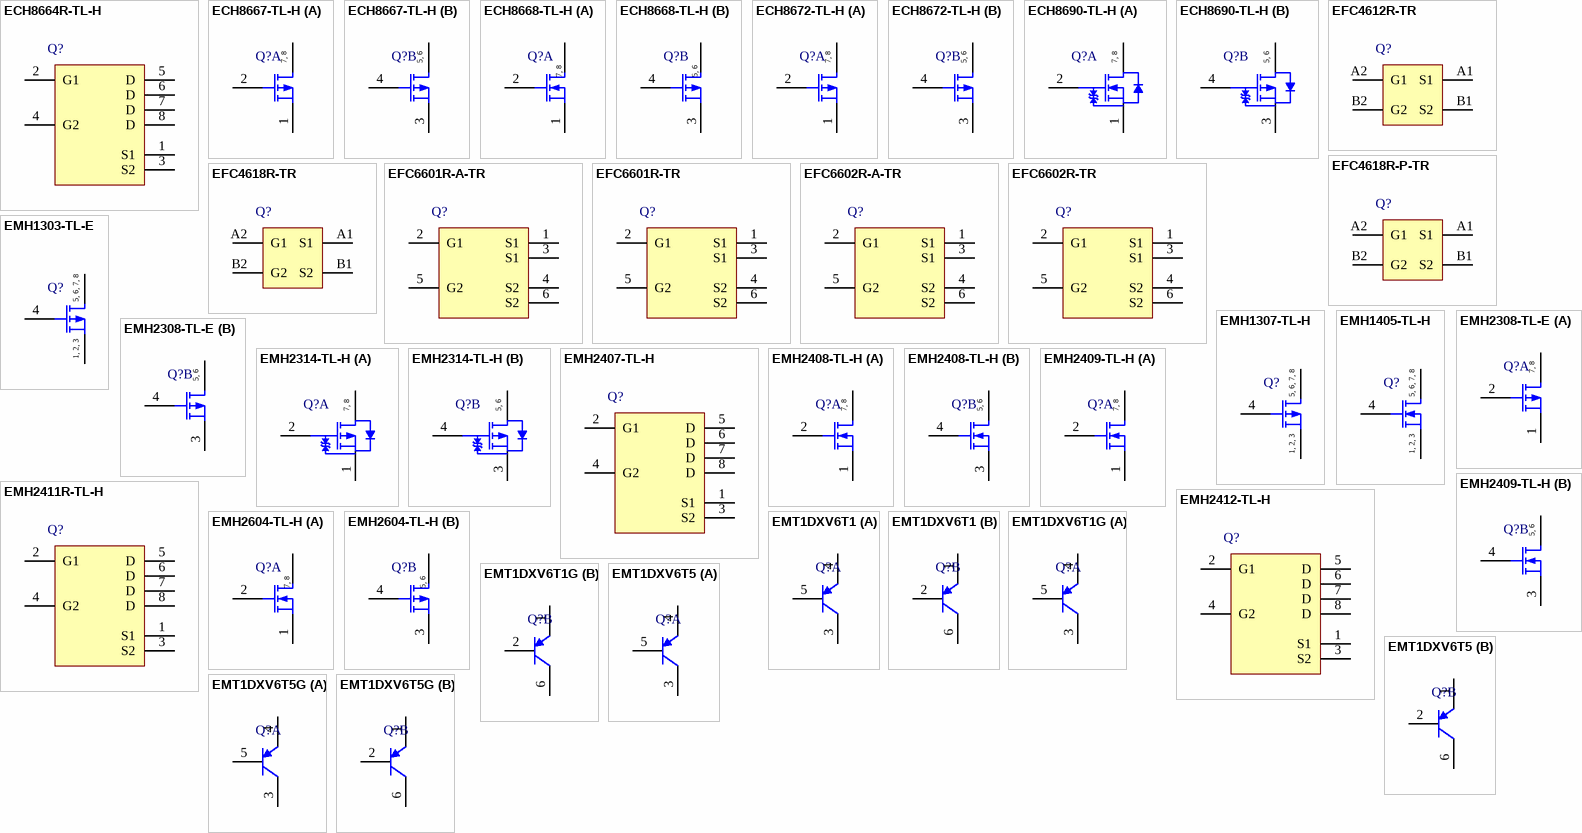
[diagram p35: symbols ECH8664R-TL-H to EMT1DXV6T5G]

## ECH8664R-TL-H
designator Q?
N-Channel Power MOSFET, 30 V, 7 A, 23.5 mOhm, Dual, 8-Pin ECH, Pb-Free, Tape and Reel; Manufacturer: On Semiconductor; PartNumber: ECH8664R-TL-H; Channel Polarity: N Channel; ID Max (A): 7; PD Max (W): 1.3; V(BR)DSS Min (V): 30; VGS Max (V): 12; PackageReference: ECH-8; PackageDescription: 8-Pin SOT23, Body 2.9 x 2.3 mm, Pitch 0.65 mm; Supplier 1: Digi-Key; Supplier Part Number 1: ECH8664R-TL-H-ND; Supplier 2: Mouser; Supplier Part Number 2: 863-ECH8664R-TL-H; Configuration: Dual; Package Type: SOT-28 FL / ECH-8; Packing: Tape and Reel; RoHS: Pb-Free; VGS(th) Max (V): 1.3; Mounting Technology: Surface Mount; ComponentLink1Description: Manufacturer URL; ComponentLink1URL: http://www.onsemi.com/; ComponentLink2Description: Datasheet; ComponentLink2URL: http://www.onsemi.com/pub_link/Collateral/ENA1185-D.PDF; ComponentLink3Description: Package Specification; ComponentLink3URL: http://www.onsemi.com/pub_link/Collateral/ECH8308-D.PDF
footprint ONSC-ECH-8_V (SOT23, 8-Leads, Body 2.9x2.3mm, Pitch 0.65mm)
pins: 1 S1, 2 G1, 3 S2, 4 G2, 5 D, 6 D, 7 D, 8 D

## ECH8667-TL-H
designator Q?
P-Channel Power MOSFET, -30 V, -5.5 A, 39 mOhm, Dual, 8-Pin ECH, Pb-Free, Tape and Reel; Manufacturer: On Semiconductor; PartNumber: ECH8667-TL-H; Channel Polarity: P Channel; Ciss Typ (pF): 600; Coss Typ (pF): 145; Crss Typ (pF): 110; ID Max (A): 5.5; PD Max (W): 1.3; V(BR)DSS Min (V): 30; VGS Max (V): 20; VGS(th) Max (V): 2.6; PackageReference: ECH-8; PackageDescription: 8-Pin SOT23, Body 2.9 x 2.3 mm, Pitch 0.65 mm; Supplier 1: Digi-Key; Supplier Part Number 1: ECH8667-TL-H-ND; Supplier 2: Mouser; Supplier Part Number 2: 863-ECH8667-TL-H; Configuration: Dual; Package Type: SOT-28 FL / ECH-8; Packing: Tape and Reel; RoHS: Pb-Free; Mounting Technology: Surface Mount; ComponentLink1Description: Manufacturer URL; ComponentLink1URL: http://www.onsemi.com/; ComponentLink2Description: Datasheet; ComponentLink2URL: http://www.onsemi.com/pub_link/Collateral/ECH8667-D.PDF; ComponentLink3Description: Package Specification; ComponentLink3URL: http://www.onsemi.com/pub_link/Collateral/ECH8308-D.PDF
footprint ONSC-ECH-8_V (SOT23, 8-Leads, Body 2.9x2.3mm, Pitch 0.65mm)
part A pins: 1 S1, 2 G1, 7 D1, 8 D1
part B pins: 3 S2, 4 G2, 5 D2, 6 D2
part A text: 7, 8
part B text: 5, 6

## ECH8668-TL-H
designator Q?
Power MOSFET, 20 V, 7.5 A, 17 mOhm, -20 V, -5 A, 38 mOhm, Complementary Dual, 8-Pin ECH, Pb-Free, Tape and Reel; Manufacturer: On Semiconductor; PartNumber: ECH8668-TL-H; PD Max (W): 1.3; V(BR)DSS Min (V): 20; VGS Max (V): 10; PackageReference: ECH-8; PackageDescription: 8-Pin SOT23, Body 2.9 x 2.3 mm, Pitch 0.65 mm; Supplier 1: Digi-Key; Supplier Part Number 1: ECH8668-TL-H-ND; Supplier 2: Mouser; Supplier Part Number 2: 863-ECH8668-TL-H; Channel Polarity: Complementary; Configuration: Dual; Package Type: SOT-28 FL / ECH-8; Packing: Tape and Reel; RoHS: Pb-Free; VGS(th) Max (V): 1.3; Mounting Technology: Surface Mount; ComponentLink1Description: Manufacturer URL; ComponentLink1URL: http://www.onsemi.com/; ComponentLink2Description: Datasheet; ComponentLink2URL: http://www.onsemi.com/pub_link/Collateral/ECH8668-D.PDF; ComponentLink3Description: Package Specification; ComponentLink3URL: http://www.onsemi.com/pub_link/Collateral/ECH8308-D.PDF
footprint ONSC-ECH-8_V (SOT23, 8-Leads, Body 2.9x2.3mm, Pitch 0.65mm)
part A pins: 1 S1, 2 G1, 7 D1, 8 D1
part B pins: 3 S2, 4 G2, 5 D2, 6 D2
part A text: 7, 8
part B text: 5, 6

## ECH8672-TL-H
designator Q?
P-Channel Power MOSFET, -20 V, -3.5 A, 85 mOhm, Dual, 8-Pin ECH, Pb-Free, Tape and Reel; Manufacturer: On Semiconductor; PartNumber: ECH8672-TL-H; Channel Polarity: P Channel; Ciss Typ (pF): 320; Coss Typ (pF): 66; Crss Typ (pF): 50; ID Max (A): 3.5; PD Max (W): 1.3; V(BR)DSS Min (V): 20; VGS Max (V): 10; PackageReference: ECH-8; PackageDescription: 8-Pin SOT23, Body 2.9 x 2.3 mm, Pitch 0.65 mm; Supplier 1: Digi-Key; Supplier Part Number 1: ECH8672-TL-H-ND; Supplier 2: Mouser; Supplier Part Number 2: 863-ECH8672-TL-H; Configuration: Dual; Package Type: SOT-28 FL / ECH-8; Packing: Tape and Reel; RoHS: Pb-Free; VGS(th) Max (V): 1.3; Mounting Technology: Surface Mount; ComponentLink1Description: Manufacturer URL; ComponentLink1URL: http://www.onsemi.com/; ComponentLink2Description: Datasheet; ComponentLink2URL: http://www.onsemi.com/pub_link/Collateral/ENA1465-D.PDF; ComponentLink3Description: Package Specification; ComponentLink3URL: http://www.onsemi.com/pub_link/Collateral/ECH8308-D.PDF
footprint ONSC-ECH-8_V (SOT23, 8-Leads, Body 2.9x2.3mm, Pitch 0.65mm)
part A pins: 1 S1, 2 G1, 7 D1, 8 D1
part B pins: 3 S2, 4 G2, 5 D2, 6 D2
part A text: 7, 8
part B text: 5, 6

## ECH8690-TL-H
designator Q?
Power MOSFET, 60 V, 4.7 A, 55 mOhm -60 V, -3.5 A, 94 mOhm Complememtary Dual, 8-Pin ECH, Pb-Free, Tape and Reel; Manufacturer: On Semiconductor; PartNumber: ECH8690-TL-H; Channel Polarity: Complementary; PD Max (W): 1.5; V(BR)DSS Min (V): 60; VGS Max (V): 20; VGS(th) Max (V): 2.6; PackageReference: ECH-8; PackageDescription: 8-Pin SOT23, Body 2.9 x 2.3 mm, Pitch 0.65 mm; Supplier 1: Newark; Supplier Part Number 1: 97W4990; Supplier 2: Mouser; Supplier Part Number 2: 863-ECH8690-TL-H; Configuration: Dual; Package Type: SOT-28 FL / ECH-8; Packing: Tape and Reel; RoHS: Pb-Free; Mounting Technology: Surface Mount; ComponentLink1Description: Manufacturer URL; ComponentLink1URL: http://www.onsemi.com/; ComponentLink2Description: Datasheet; ComponentLink2URL: http://www.onsemi.com/pub_link/Collateral/ENA2185-D.PDF; ComponentLink3Description: Package Specification; ComponentLink3URL: http://www.onsemi.com/pub_link/Collateral/ECH8308-D.PDF
footprint ONSC-ECH-8_V (SOT23, 8-Leads, Body 2.9x2.3mm, Pitch 0.65mm)
part A pins: 1 S1, 2 G1, 7 D1, 8 D1
part B pins: 3 S2, 4 G2, 5 D2, 6 D2
part A text: 7, 8
part B text: 5, 6

## EFC4612R-TR
designator Q?
N-Channel Power MOSFET, 24 V, 6 A, 45 mOhm, 4-Pin EFCP, Pb-Free, Tape and Reel; Manufacturer: On Semiconductor; PartNumber: EFC4612R-TR; Channel Polarity: N Channel; Configuration: Dual; V(BR)DSS Min (V): 24; VGS Max (V): 12; VGS(th) Max (V): 1.3; PackageVersion: Rev. O, 02/2012; PackageReference: EFCP1313-4CC-037-4-567DP; PackageDescription: 4-Ball Wafer Level Chip Scale Package, Body 1.26 x 1.26 mm, Pitch 0.65 mm; Supplier 1: Digi-Key; Supplier Part Number 1: EFC4612R-TR-ND; Supplier 2: Newark; Supplier Part Number 2: 65T1221; Supplier 3: Mouser; Supplier Part Number 3: 863-EFC4612R-TR; Package Type: WLCSP-4; Packing: Tape and Reel; RoHS: Pb-Free; Mounting Technology: Surface Mount; ComponentLink1Description: Manufacturer URL; ComponentLink1URL: http://www.onsemi.com/; ComponentLink2Description: Datasheet; ComponentLink2URL: http://www.onsemi.com/pub_link/Collateral/ENA1477-D.PDF; ComponentLink3Description: Package Specification; ComponentLink3URL: http://www.onsemi.com/pub_link/Collateral/567DP.PDF
footprint ONSC-EFCP1313-4CC-037-4-567DP (BGA, 4-Balls, Body 1.26x1.26mm, Pitch 0.65mm)
pins: A1 S1, A2 G1, B1 S2, B2 G2

## EFC4618R-P-TR
designator Q?
N-Channel Power MOSFET, 24 V, 6 A, 23 mOhm, 4-Pin EFCP, Pb-Free, Tape and Reel; Manufacturer: On Semiconductor; PartNumber: EFC4618R-P-TR; Channel Polarity: N Channel; Configuration: Dual; VGS Max (V): 12; VGS(th) Max (V): 1.3; PackageVersion: Rev. O, 02/2012; PackageReference: EFCP1818-4CC-037-4-567DK; PackageDescription: 4-Ball Wafer Level Chip Scale Package, Body 1.81 x 1.81 mm, Pitch 0.65 mm; Supplier 1: Mouser; Supplier Part Number 1: 863-EFC4618R-P-TR; Package Type: WLCSP-4; Packing: Tape and Reel; RoHS: Pb-Free; Mounting Technology: Surface Mount; ComponentLink1Description: Manufacturer URL; ComponentLink1URL: http://www.onsemi.com/; ComponentLink2Description: Datasheet; ComponentLink2URL: http://www.onsemi.com/pub_link/Collateral/ENA1123A-D.PDF; ComponentLink3Description: Package Specification; ComponentLink3URL: http://www.onsemi.com/pub_link/Collateral/567DK.PDF
footprint ONSC-EFCP1818-4CC-037-4-567DK_V (BGA, 4-Balls, Body 1.81x1.81mm, Pitch 0.65mm)
pins: A1 S1, A2 G1, B1 S2, B2 G2

## EFC4618R-TR
designator Q?
N-Channel Power MOSFET, 24 V, 6 A, 23 mOhm, 4-Pin EFCP, Pb-Free, Tape and Reel; Manufacturer: On Semiconductor; PartNumber: EFC4618R-TR; Channel Polarity: N Channel; Configuration: Dual; VGS Max (V): 12; VGS(th) Max (V): 1.3; PackageVersion: Rev. O, 02/2012; PackageReference: EFCP1818-4CC-037-4-567DK; PackageDescription: 4-Ball Wafer Level Chip Scale Package, Body 1.81 x 1.81 mm, Pitch 0.65 mm; Supplier 1: Digi-Key; Supplier Part Number 1: EFC4618R-TR-ND; Supplier 2: Mouser; Supplier Part Number 2: 863-EFC4618R-TR; Package Type: WLCSP-4; Packing: Tape and Reel; RoHS: Pb-Free; Mounting Technology: Surface Mount; ComponentLink1Description: Manufacturer URL; ComponentLink1URL: http://www.onsemi.com/; ComponentLink2Description: Datasheet; ComponentLink2URL: http://www.onsemi.com/pub_link/Collateral/ENA1123A-D.PDF; ComponentLink3Description: Package Specification; ComponentLink3URL: http://www.onsemi.com/pub_link/Collateral/567DK.PDF
footprint ONSC-EFCP1818-4CC-037-4-567DK_V (BGA, 4-Balls, Body 1.81x1.81mm, Pitch 0.65mm)
pins: A1 S1, A2 G1, B1 S2, B2 G2

## EFC6601R-A-TR
designator Q?
N-Channel Power MOSFET, 24 V, 13 A, 11.5 mOhm, 6-Pin EFCP, Pb-Free, Tape and Reel; Manufacturer: On Semiconductor; PartNumber: EFC6601R-A-TR; Channel Polarity: N Channel; Configuration: Dual; VGS Max (V): 12; VGS(th) Max (V): 1.3; PackageVersion: Rev. O, 05/2012; PackageReference: EFCP2718-6CE-020-6-567FK; PackageDescription: 6-Ball Wafer Level Chip Scale Package, Body 2.7 x 1.81 mm, Pitch 0.65 mm; Supplier 1: Newark; Supplier Part Number 1: 56W5203; Supplier 2: Mouser; Supplier Part Number 2: 863-EFC6601R-A-TR; Package Type: WLCSP-6; Packing: Tape and Reel; RoHS: Pb-Free; Mounting Technology: Surface Mount; ComponentLink1Description: Manufacturer URL; ComponentLink1URL: http://www.onsemi.com/; ComponentLink2Description: Datasheet; ComponentLink2URL: http://www.onsemi.com/pub_link/Collateral/ENA2151-D.PDF; ComponentLink3Description: Package Specification; ComponentLink3URL: http://www.onsemi.com/pub_link/Collateral/ENA2152-D.PDF
footprint ONSC-EFCP2718-6CE-020-6-567FK (BGA, 6-Balls, Body 2.7x1.81mm, Pitch 0.65mm)
pins: 1 S1, 2 G1, 3 S1, 4 S2, 5 G2, 6 S2

## EFC6601R-TR
designator Q?
N-Channel Power MOSFET, 24 V, 13 A, 11.5 mOhm, 6-Pin EFCP, Pb-Free, Tape and Reel; Manufacturer: On Semiconductor; PartNumber: EFC6601R-TR; Channel Polarity: N Channel; Configuration: Dual; VGS Max (V): 12; VGS(th) Max (V): 1.3; PackageVersion: Rev. O, 05/2012; PackageReference: EFCP2718-6CE-020-6-567FK; PackageDescription: 6-Ball Wafer Level Chip Scale Package, Body 2.7 x 1.81 mm, Pitch 0.65 mm; Supplier 1: Newark; Supplier Part Number 1: 56W5204; Supplier 2: Mouser; Supplier Part Number 2: 863-EFC6601R-TR; Package Type: WLCSP-6; Packing: Tape and Reel; RoHS: Pb-Free; Mounting Technology: Surface Mount; ComponentLink1Description: Manufacturer URL; ComponentLink1URL: http://www.onsemi.com/; ComponentLink2Description: Datasheet; ComponentLink2URL: http://www.onsemi.com/pub_link/Collateral/ENA2151-D.PDF; ComponentLink3Description: Package Specification; ComponentLink3URL: http://www.onsemi.com/pub_link/Collateral/ENA2152-D.PDF
footprint ONSC-EFCP2718-6CE-020-6-567FK (BGA, 6-Balls, Body 2.7x1.81mm, Pitch 0.65mm)
pins: 1 S1, 2 G1, 3 S1, 4 S2, 5 G2, 6 S2

## EFC6602R-A-TR
designator Q?
N-Channel Power MOSFET, 12 V, 18 A, 5.9 mOhm, 6-Pin EFCP, Pb-Free, Tape and Reel; Manufacturer: On Semiconductor; PartNumber: EFC6602R-A-TR; Channel Polarity: N Channel; Configuration: Dual; VGS Max (V): 12; VGS(th) Max (V): 1.3; PackageVersion: Rev. O, 05/2012; PackageReference: EFCP2718-6CE-020-6-567FK; PackageDescription: 6-Ball Wafer Level Chip Scale Package, Body 2.7 x 1.81 mm, Pitch 0.65 mm; Supplier 1: Newark; Supplier Part Number 1: 56W5205; Supplier 2: Mouser; Supplier Part Number 2: 863-EFC6602R-A-TR; Package Type: WLCSP-6; Packing: Tape and Reel; RoHS: Pb-Free; Mounting Technology: Surface Mount; ComponentLink1Description: Manufacturer URL; ComponentLink1URL: http://www.onsemi.com/; ComponentLink2Description: Datasheet; ComponentLink2URL: http://www.onsemi.com/pub_link/Collateral/ENA2152-D.PDF; ComponentLink3Description: Package Specification; ComponentLink3URL: http://www.onsemi.com/pub_link/Collateral/ENA2152-D.PDF
footprint ONSC-EFCP2718-6CE-020-6-567FK (BGA, 6-Balls, Body 2.7x1.81mm, Pitch 0.65mm)
pins: 1 S1, 2 G1, 3 S1, 4 S2, 5 G2, 6 S2